# Altium footprint library LT8636HVPBF.PcbLib: 1 footprints
Each footprint in its own frame and in the unit in brackets; x right, y up, seen from the top. Pads: shape width x height; smd on the part's side, far side on the other; paste and mask are expansions set on the pad; w line width, h text height; cw(c..) or ccw(c..) is an arc to the next point about the centre after c.
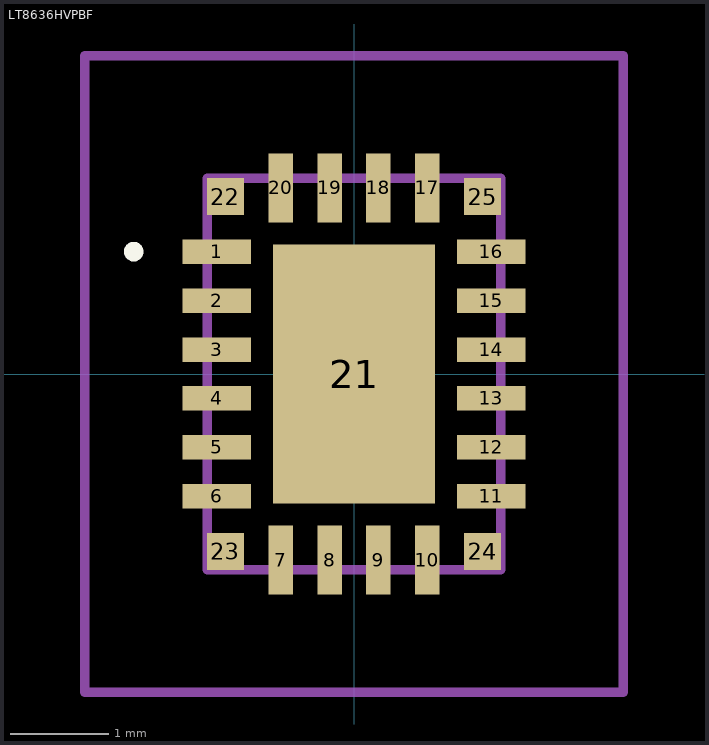
[diagram p0: the footprint, top view; thin cyan lines are the x and y axes]

## LT8636HVPBF [mm]
pads (25):
  rect 0.7x0.25 smd: 1(-1.4,1.25) 2(-1.4,0.75) 3(-1.4,0.25) 4(-1.4,-0.25) 5(-1.4,-0.75) 6(-1.4,-1.25) 11(1.4,-1.25) 12(1.4,-0.75) 13(1.4,-0.25) 14(1.4,0.25) 15(1.4,0.75) 16(1.4,1.25)
  rect 0.25x0.7 smd: 7(-0.75,-1.9) 8(-0.25,-1.9) 9(0.25,-1.9) 10(0.75,-1.9) 17(0.75,1.9) 18(0.25,1.9) 19(-0.25,1.9) 20(-0.75,1.9)
  rect 1.65x2.65 smd: 21(0,0)
  rect 0.375x0.375 smd: 22(-1.313,1.813) 23(-1.313,-1.813) 24(1.313,-1.813) 25(1.313,1.813)
Top Overlay:
  lines w0.1: -2.3,1.25 -2.3,1.25 ; -2.3,1.25 ccw(c-2.25,1.25) -2.2,1.25 ; -2.3,1.25 cw(c-2.25,1.25) -2.2,1.25 ; -2.2,1.25 -2.2,1.25
Mechanical 15:
  lines w0.1: -1.5,-2 1.5,-2 1.5,2 -1.5,2 -1.5,-2
Mechanical 20:
  lines w0.1: -2.75,-3.25 2.75,-3.25 2.75,3.25 -2.75,3.25 -2.75,-3.25